# EAGLE library part LT-LT3045 (library EagleLibrary)
Low noise LDO
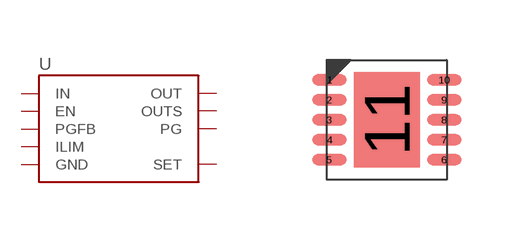
[diagram p3: symbol with the pads of LT-LT3045XDD; footprint LT-LT3045XDD]

Designator prefix U

## LT-LT3045 (MFG: Analog Devices)  [LT-LT3045XDD]
1  IN
2  IN
3  EN
4  PG
5  ILIM
6  PGFB
7  SET
8  GND
9  OUTS
10  OUT
11  GND

## Footprint LT-LT3045XDD (pad centres in mm)
10-SON (DFN), 0.50 mm pitch, 3.00 X 3.00 X 0.85 mm body, 2.38 X 1.65 mm thermal pad 10-pin SON (DFN) package with 0.50 mm pitch with body size 3.00 X 3.00 X 0.85 mm and thermal pad size 2.38 X 1.65 mm
smd 0.86 x 0.27: 1 -1.435,1; 2 -1.435,0.5; 3 -1.435,0; 4 -1.435,-0.5; 5 -1.435,-1; 6 1.435,-1; 7 1.435,-0.5; 8 1.435,0; 9 1.435,0.5; 10 1.435,1
smd 1.65 x 2.38: 11 0,0